# EAGLE library part POT_XICON_12MM (library wheat)
POT, 12MM XICON DUAL
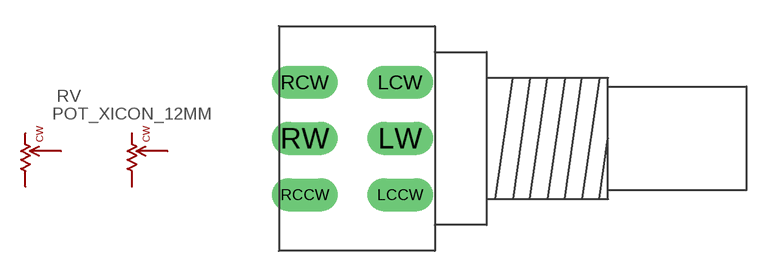
[diagram p61: symbol with the pads of POT_XICON_12MM; footprint POT_XICON_12MM]

Designator prefix RV

## POT_XICON_12MM  [POT_XICON_12MM]
LCCW  CCW1  pas
LCW  CW1  pas
LW  W1  pas
RCCW  CCW2  pas
RCW  CW2  pas
RW  W2  pas

## Footprint POT_XICON_12MM (pad centres in mm)
pot, alpha 12mm dual
drill 1.27 long: LCCW -5,-3.25; LCW -5,3.25; LW -5,0; RCCW -10.5,-3.25; RCW -10.5,3.25; RW -10.5,0